# Altium footprint library relay.PCBLIB: 291 footprints (part 19 of 19)
Each footprint in its own frame and in the unit in brackets; x right, y up, seen from the top. Pads: shape width x height; smd on the part's side, far side on the other; paste and mask are expansions set on the pad; w line width, h text height; cw(c..) or ccw(c..) is an arc to the next point about the centre after c.
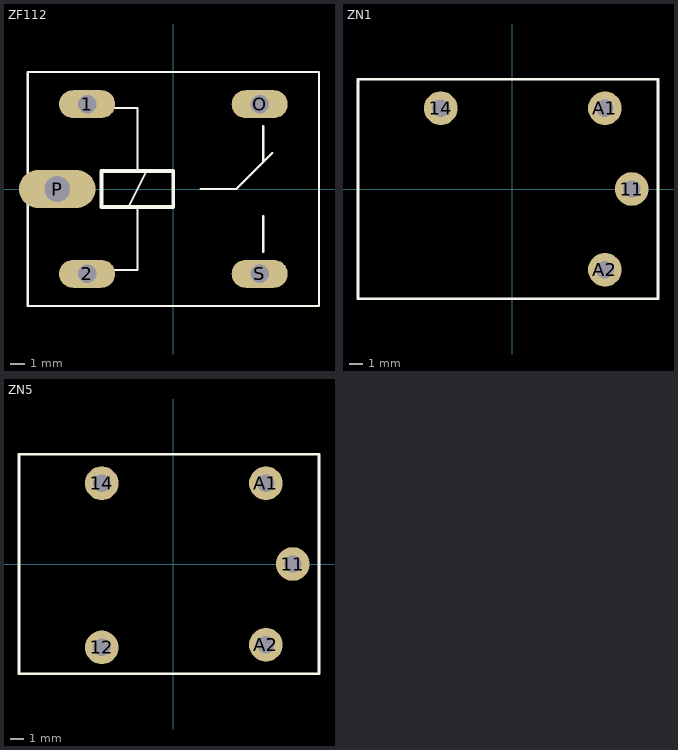
[diagram p18: the footprints below, top view; thin cyan lines are the x and y axes]

## ZF112 [mil]
pads (5):
  oval 156x78 hole 52: 1(-240,236) 2(-240,-236) O(240,236) S(240,-236)
  oval 213x106.5 hole 71: P(-323,0)
Top Overlay:
  lines w6: -175,-225 -100,-225 -100,-50 ; -175,225 -100,225 -100,50 ; -125,-50 -75,50 ; 75,0 175,0 275,100 ; 250,-175 250,-75 ; 250,75 250,175 ; -405,-325 -405,325 405,325 405,-325 -405,-325
  lines w10: -200,-50 -200,50 -100,50 -75,50 0,50 0,-50 -100,-50 -125,-50 -200,-50

## ZN1 [mm]
pads (4):
  round 2.5 hole 1.3: 11(8.89,0) 14(-5.31,6) A1(6.89,6) A2(6.89,-6)
Top Overlay:
  lines w0.203: -11.46,-8.15 10.84,-8.15 10.84,8.15 -11.46,8.15 -11.46,-8.15

## ZN5 [mm]
pads (5):
  round 2.5 hole 1.3: 11(8.89,0) 12(-5.31,-6.2) 14(-5.31,6) A1(6.89,6) A2(6.89,-6)
Top Overlay:
  lines w0.203: -11.46,-8.15 10.84,-8.15 10.84,8.15 -11.46,8.15 -11.46,-8.15